# Altium integrated library ERA2ARB331X.IntLib: 1 symbol
Pins are listed as number, name and electrical type; pins without a type are passive.

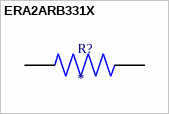
[diagram p0: symbol ERA2ARB331X]

## ERA2ARB331X
designator R?
MP: ERA2ARB331X; Package: None; Price: None; Value: *; Availability: Unavailable
footprint RES_ERA2ARB331X
pins: 1, 2